# EAGLE library part G2IL+ (library G2iL)
G2iL+ UCODE RFID transponder SOT-886
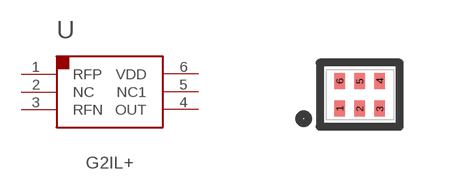
[diagram p0: symbol with the pads of G2IL+; footprint G2IL+]

Designator prefix U

## G2IL+  [G2IL+]
1  RFP
2  NC
3  RFN
4  OUT
5  NC1
6  VDD

## Footprint G2IL+ (pad centres in mm)
smd 0.27 x 0.4: 1 -0.5,-0.347; 2 0,-0.347; 3 0.5,-0.347; 4 0.5,0.347; 5 0,0.347; 6 -0.5,0.347